# EAGLE library part SCDA5A0201 (library SCDA5A0201)
ALPS Connector for SDMemory Card SD-CARD SCDA5A0201 SPI -MODE
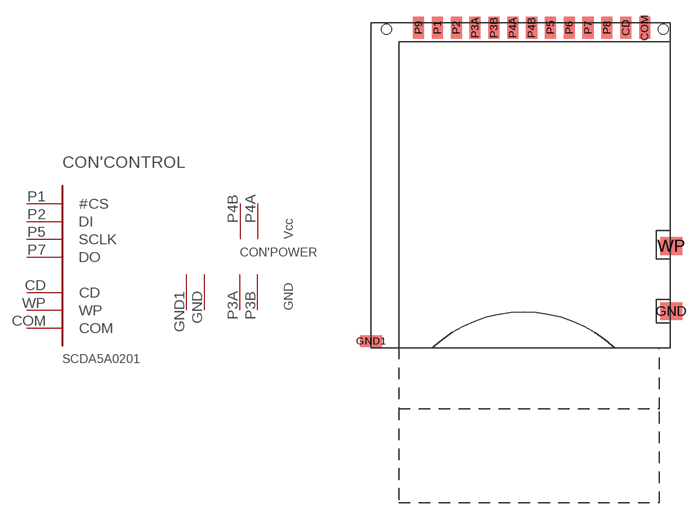
[diagram p0: symbol with the pads of SCDA5A0201; footprint SCDA5A0201]

Designator prefix CON; gates 'CONTROL=SCDA5A0201_SPI 'POWER=SCDA5A0201_POWER

## SCDA5A0201  [SCDA5A0201]
CD  'CONTROL:CD  oc
COM  'CONTROL:COM  oc
GND  'POWER:GND  pwr
GND1  'POWER:GND  pwr
P1  'CONTROL:#CS  in
P2  'CONTROL:DI  in
P3A  'POWER:GND  pwr
P3B  'POWER:GND  pwr
P4A  'POWER:VCC  pwr
P4B  'POWER:VCC1  pwr
P5  'CONTROL:SCLK  in
P7  'CONTROL:DO  out
WP  'CONTROL:WP  oc

## Footprint SCDA5A0201 (pad centres in mm)
ALPS SD-CARD Connector Slim Type Reverse Mount SCDA5A0201
smd 1 x 2: CD 9.475,-0.45; COM 11.175,-0.45; P1 -7.525,-0.45; P2 -5.825,-0.45; P3A -4.125,-0.45; P3B -2.425,-0.45; P4A -0.725,-0.45; P4B 0.975,-0.45; P5 2.675,-0.45; P6 4.375,-0.45; P7 6.075,-0.45; P8 7.775,-0.45; P9 -9.225,-0.45
smd 2 x 1.6: GND 13.575,-26.05; WP 13.575,-20.15
smd 2 x 1: GND1 -13.525,-28.75
hole 0.9 at -12.125,-0.6
hole 0.9 at 12.875,-0.6